# Altium schematic symbol library Schlib1.SchLib: 12 symbols
Pins are listed as number, name and electrical type; pins without a type are passive.

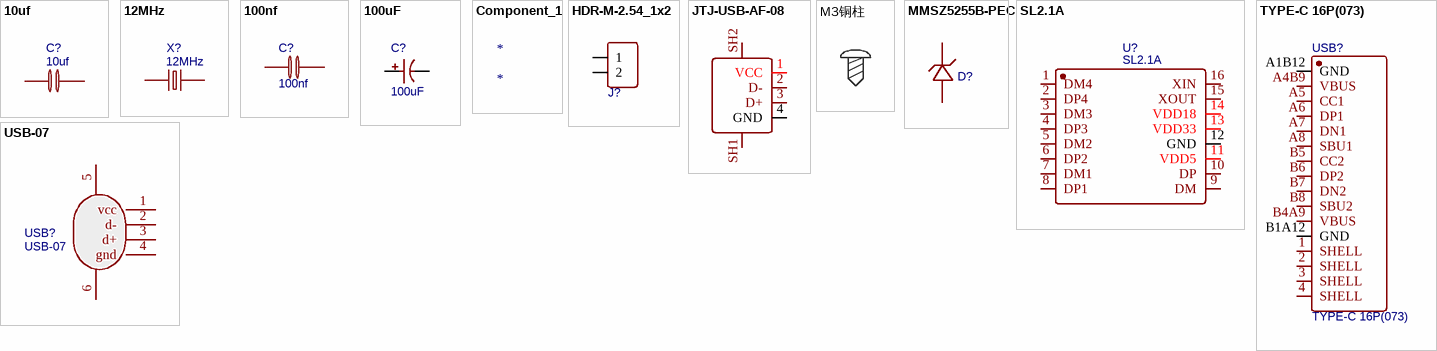
[diagram p0: symbols 10uf to USB-07]

## 10uf
designator C?
nameAlias: Value(F); Contributor: LCEDA_Lib; spicePre: C; spiceSymbolName: C_0805_EU
footprint C0805
pins: 1, 2

## 12MHz
designator X?
BOM_Manufacturer: TAITIEN Elec; BOM_Manufacturer Part: XJHCELNANF-12MHZ; nameAlias: Frequency; Contributor: LCSC; BOM_Supplier: LCSC; BOM_Supplier Part: C295091; spicePre: X; spiceSymbolName: XJHCELNANF-12MHZ
footprint HC-49S_L11.4-W4.8
pins: 1, 2

## 100nf
designator C?
nameAlias: Value(F); Contributor: LCEDA_Lib; spicePre: C; spiceSymbolName: C_0603_EU
footprint C0603
pins: 1, 2

## 100uF
designator C?
BOM_Manufacturer: ROQANG; BOM_Manufacturer Part: RVT1A101M0505; nameAlias: Capacitance; BOM_Supplier: LCSC; BOM_Supplier Part: C72473; spicePre: C; spiceSymbolName: RVT1A101M0505
footprint CAP-SMD_BD5.0-L5.3-W5.3-FD
pins: 1, 2

## Component_1
designator *

## HDR-M-2.54_1x2
designator J?  (value not drawn)
Contributor: LCEDA_Lib; BOM_Supplier Part: C124375; BOM_Supplier: LCSC; spicePre: J; spiceSymbolName: HDR-M-2.54_1x2
footprint HDR-M-2.54_1X2
pins: 1, 2

## JTJ-USB-AF-08
designator USB?  (value not drawn)
Contributor: LCSC; BOM_Supplier: LCSC; BOM_Manufacturer Part: JTJ-USB-AF-08; BOM_Supplier Part: C2345; BOM_JLCPCB Part Class: Extended Part; spicePre: U; spiceSymbolName: JTJ-USB-AF-08
footprint USB-A-TH__USB-AF-90
pins: 1 VCC, 2 D-, 3 D+, 4 GND, SH1, SH2

## M3铜柱
designator U?  (value not drawn)
Contributor: shang.h; spicePre: U; spiceSymbolName: M3铜柱
footprint M3铜柱

## MMSZ5255B-PEC
designator D?  (value not drawn)
BOM_Manufacturer: PANJIT International; Contributor: LCSC; BOM_Supplier: LCSC; BOM_Supplier Part: C263326; BOM_Manufacturer Part: MMSZ5255B-PEC; BOM_JLCPCB Part Class: Extended Part; spicePre: D; spiceSymbolName: MMSZ5255B-PEC
footprint SOD-123_L2.8-W1.8-LS3.7-RD
pins: 1 C, 2 A

## SL2.1A
designator U?
BOM_Manufacturer: CoreChips; Contributor: LCSC; BOM_Supplier: LCSC; BOM_Supplier Part: C192893; BOM_Manufacturer Part: SL2.1A; BOM_JLCPCB Part Class: Extended Part; spicePre: U; spiceSymbolName: SL2.1A
footprint SOP-16_L10.0-W3.9-P1.27-LS6.0-BL
pins: 1 DM4, 2 DP4, 3 DM3, 4 DP3, 5 DM2, 6 DP2, 7 DM1, 8 DP1, 9 DM, 10 DP, 11 VDD5, 12 GND, 13 VDD33, 14 VDD18, 15 XOUT, 16 XIN

## TYPE-C 16P(073)
designator USB?
BOM_Manufacturer: SHOU HAN; Contributor: LCSC; BOM_Supplier: LCSC; BOM_Supplier Part: C668624; BOM_Manufacturer Part: TYPE-C 16P(073); spicePre: U; spiceSymbolName: TYPE-C 16P(073)
footprint USB-C-SMD_TYPE-C16PIN_C668624
pins: 1 SHELL, 2 SHELL, 3 SHELL, 4 SHELL, A1B12 GND, A4B9 VBUS, A5 CC1, A6 DP1, A7 DN1, A8 SBU1, B1A12 GND, B4A9 VBUS, B5 CC2, B6 DP2, B7 DN2, B8 SBU2

## USB-07
designator USB?
BOM_Manufacturer: SOFNG; Contributor: LCSC; BOM_Supplier: LCSC; BOM_Supplier Part: C183610; BOM_Manufacturer Part: USB-07; BOM_JLCPCB Part Class: Extended Part; spicePre: U; spiceSymbolName: USB-07
footprint USB-A-SMD_USB-07
pins: 1 vcc, 2 d-, 3 d+, 4 gnd, 5, 6